# Altium integrated library Silicon Labs Audio.IntLib: 141 symbols (part 3 of 7)
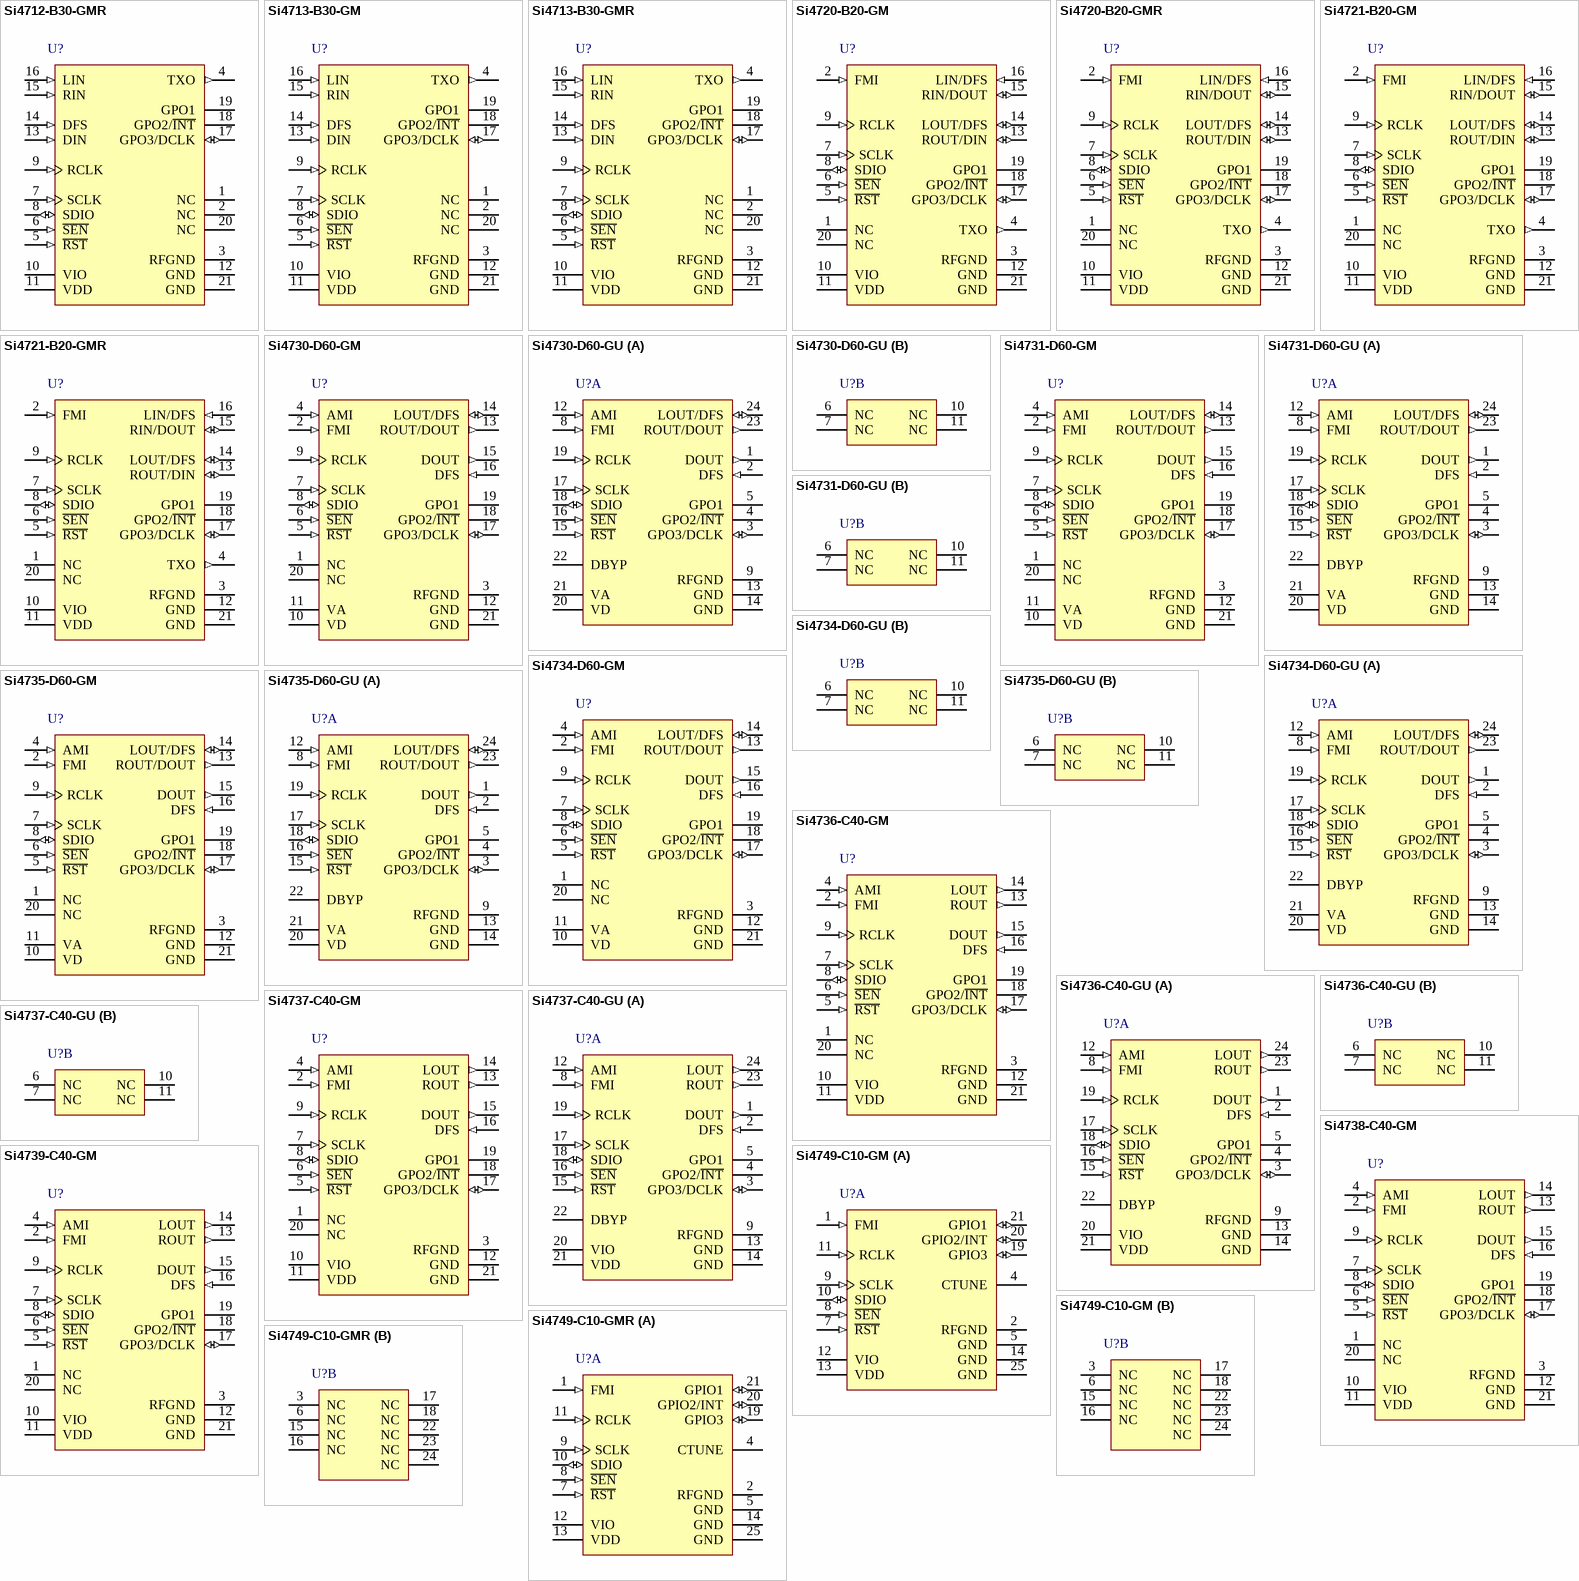
[diagram p9: symbols Si4712-B30-GMR to Si4749-C10-GMR]

## Si4739-C40-GM
designator U?
Broadcast AM / FM Radio Receiver, -20 to 85 degC, 20-pin QFN, Tray; Manufacturer: Silicon Labs; PartNumber: Si4739-C40-GM; RDS Support: TRUE; Sub-Family: AM/FM, Shortwave, Longwave, Weather Band Receivers; DatasheetVersion: Rev. 1.0; PackageReference: QFN-20; PackageDescription: 20-Pin Quad-Flat No-Leads Package, Body 3 x 3 mm, Pitch 0.5 mm; Supplier 1: Digi-Key; Supplier Part Number 1: SI4739-C40-GM-ND; Supplier 2: Mouser; Supplier Part Number 2: 634-SI4739-C40-GM; Mounting Technology: Surface Mount; Code_IPC: J-STD-020; ComponentLink1Description: Manufacturer URL; ComponentLink1URL: http://www.silabs.com/; ComponentLink2Description: Datasheet; ComponentLink2URL: http://www.silabs.com/Support Documents/TechnicalDocs/Si4736-37-38-39-C40.pdf; ComponentLink3Description: Package Specification; ComponentLink3URL: http://www.silabs.com/Support%20Documents/TechnicalDocs/C8051F99x.pdf
footprint SLAB-QFN-20-1700x1700TP_V (QFN, 20-Leads, Body 3x3mm, Pitch 0.5mm, Thermal Pad 1.7x1.7mm)
pins: 1 NC "No Connect. Leave floating.", 2 FMI (in) "FM/WB RF inputs. FMI should be connected to the antenna trace.", 3 RFGND (power) "RF ground. Connect to ground plane on PCB.", 4 AMI (in) "AM RF input. AMI should be connected to the AM antenna.", 5 ~{RST} (in) "Device reset (active low) input.", 6 ~{SEN} (in) "Serial enable input (active low).", 7 SCLK (in) "Serial clock input.", 8 SDIO (io) "Serial data input/output.", 9 RCLK (in) "External reference oscillator input.", 10 VIO (power) "I/O supply voltage.", 11 VDD (power) "Supply voltage. May be connected directly to battery.", 12 GND (power) "Ground. Connect to ground plane on PCB.", 13 ROUT (out) "Right audio line output in analog output mode.", 14 LOUT (out) "Left audio line output in analog output mode.", 15 DOUT (out) "Digital output data in digital output mode.", 16 DFS (in) "Digital frame synchronization input in digital output mode.", 17 GPO3/DCLK (io) "General purpose output, crystal oscillator, or digital bit synchronous clock input in digital output mode.", 18 GPO2/~{INT} (hiz) "General purpose output or interrupt pin.", 19 GPO1 (hiz) "General purpose output.", 20 NC "No Connect. Leave floating.", 21 GND (power) "Ground. Connect to ground plane on PCB."

## Si4749-C10-GM
designator U?
High-Performance FM RDS / RBDS Data Receiver / Alternate Frequency Scanner, -40 to 85 degC, 24-pin QFN, Tray; Manufacturer: Silicon Labs; PartNumber: Si4749-C10-GM; RDS Support: TRUE; Sub-Family: Automotive Tuners; PackageReference: QFN-24; PackageDescription: 24-Pin Quad-Flat No-Lead Package, Body 4 x 4 mm, Pitch 0.5 mm; Supplier 1: Digi-Key; Supplier Part Number 1: SI4749-C10-GM-ND; Packing: Tray; Mounting Technology: Surface Mount; Code_JEDEC: MO-220; Code_IPC: J-STD-020C; ComponentLink1Description: Manufacturer URL; ComponentLink1URL: http://www.silabs.com/; ComponentLink2Description: Datasheet; ComponentLink2URL: http://www.silabs.com/Support Documents/TechnicalDocs/Si4749-short.pdf; ComponentLink3Description: Package Specification; ComponentLink3URL: http://www.silabs.com/Support%20Documents/TechnicalDocs/Si4749-short.pdf
footprint SLAB-QFN-24-2100x2100TP_N (QFN, 24-Leads, Body 4x4mm, Pitch 0.5mm, Thermal Pad 2.1x2.1mm, IPC Medium Density)
footprint SLAB-QFN-24-2100x2100TP_L (QFN, 24-Leads, Body 4x4mm, Pitch 0.5mm, Thermal Pad 2.1x2.1mm, IPC High Density)
footprint SLAB-QFN-24-2100x2100TP_M (QFN, 24-Leads, Body 4x4mm, Pitch 0.5mm, Thermal Pad 2.1x2.1mm, IPC Low Density)
part A pins: 1 FMI (in), 2 RFGND (power), 4 CTUNE, 5 GND (power), 7 ~{RST} (in), 8 ~{SEN} (in), 9 SCLK (in), 10 SDIO (io), 11 RCLK (in), 12 VIO (power), 13 VDD (power), 14 GND (power), 19 GPIO3 (io), 20 GPIO2/INT (io), 21 GPIO1 (io), 25 GND (power)
part B pins: 3 NC, 6 NC, 15 NC, 16 NC, 17 NC, 18 NC, 22 NC, 23 NC, 24 NC

## Si4749-C10-GMR
designator U?
High-Performance FM RDS / RBDS Data Receiver / Alternate Frequency Scanner, -40 to 85 degC, 24-pin QFN, Tape and Reel; Manufacturer: Silicon Labs; PartNumber: Si4749-C10-GMR; RDS Support: TRUE; Sub-Family: Automotive Tuners; PackageReference: QFN-24; PackageDescription: 24-Pin Quad-Flat No-Lead Package, Body 4 x 4 mm, Pitch 0.5 mm; Supplier 1: Digi-Key; Supplier Part Number 1: SI4749-C10-GMR-ND; Supplier 2: Mouser; Supplier Part Number 2: N/A; Packing: Tape and Reel; Mounting Technology: Surface Mount; Code_JEDEC: MO-220; Code_IPC: J-STD-020C; ComponentLink1Description: Manufacturer URL; ComponentLink1URL: http://www.silabs.com/; ComponentLink2Description: Datasheet; ComponentLink2URL: http://www.silabs.com/Support Documents/TechnicalDocs/Si4749-short.pdf; ComponentLink3Description: Package Specification; ComponentLink3URL: http://www.silabs.com/Support%20Documents/TechnicalDocs/Si4749-short.pdf
footprint SLAB-QFN-24-2100x2100TP_N (QFN, 24-Leads, Body 4x4mm, Pitch 0.5mm, Thermal Pad 2.1x2.1mm, IPC Medium Density)
footprint SLAB-QFN-24-2100x2100TP_L (QFN, 24-Leads, Body 4x4mm, Pitch 0.5mm, Thermal Pad 2.1x2.1mm, IPC High Density)
footprint SLAB-QFN-24-2100x2100TP_M (QFN, 24-Leads, Body 4x4mm, Pitch 0.5mm, Thermal Pad 2.1x2.1mm, IPC Low Density)
part A pins: 1 FMI (in), 2 RFGND (power), 4 CTUNE, 5 GND (power), 7 ~{RST} (in), 8 ~{SEN} (in), 9 SCLK (in), 10 SDIO (io), 11 RCLK (in), 12 VIO (power), 13 VDD (power), 14 GND (power), 19 GPIO3 (io), 20 GPIO2/INT (io), 21 GPIO1 (io), 25 GND (power)
part B pins: 3 NC, 6 NC, 15 NC, 16 NC, 17 NC, 18 NC, 22 NC, 23 NC, 24 NC

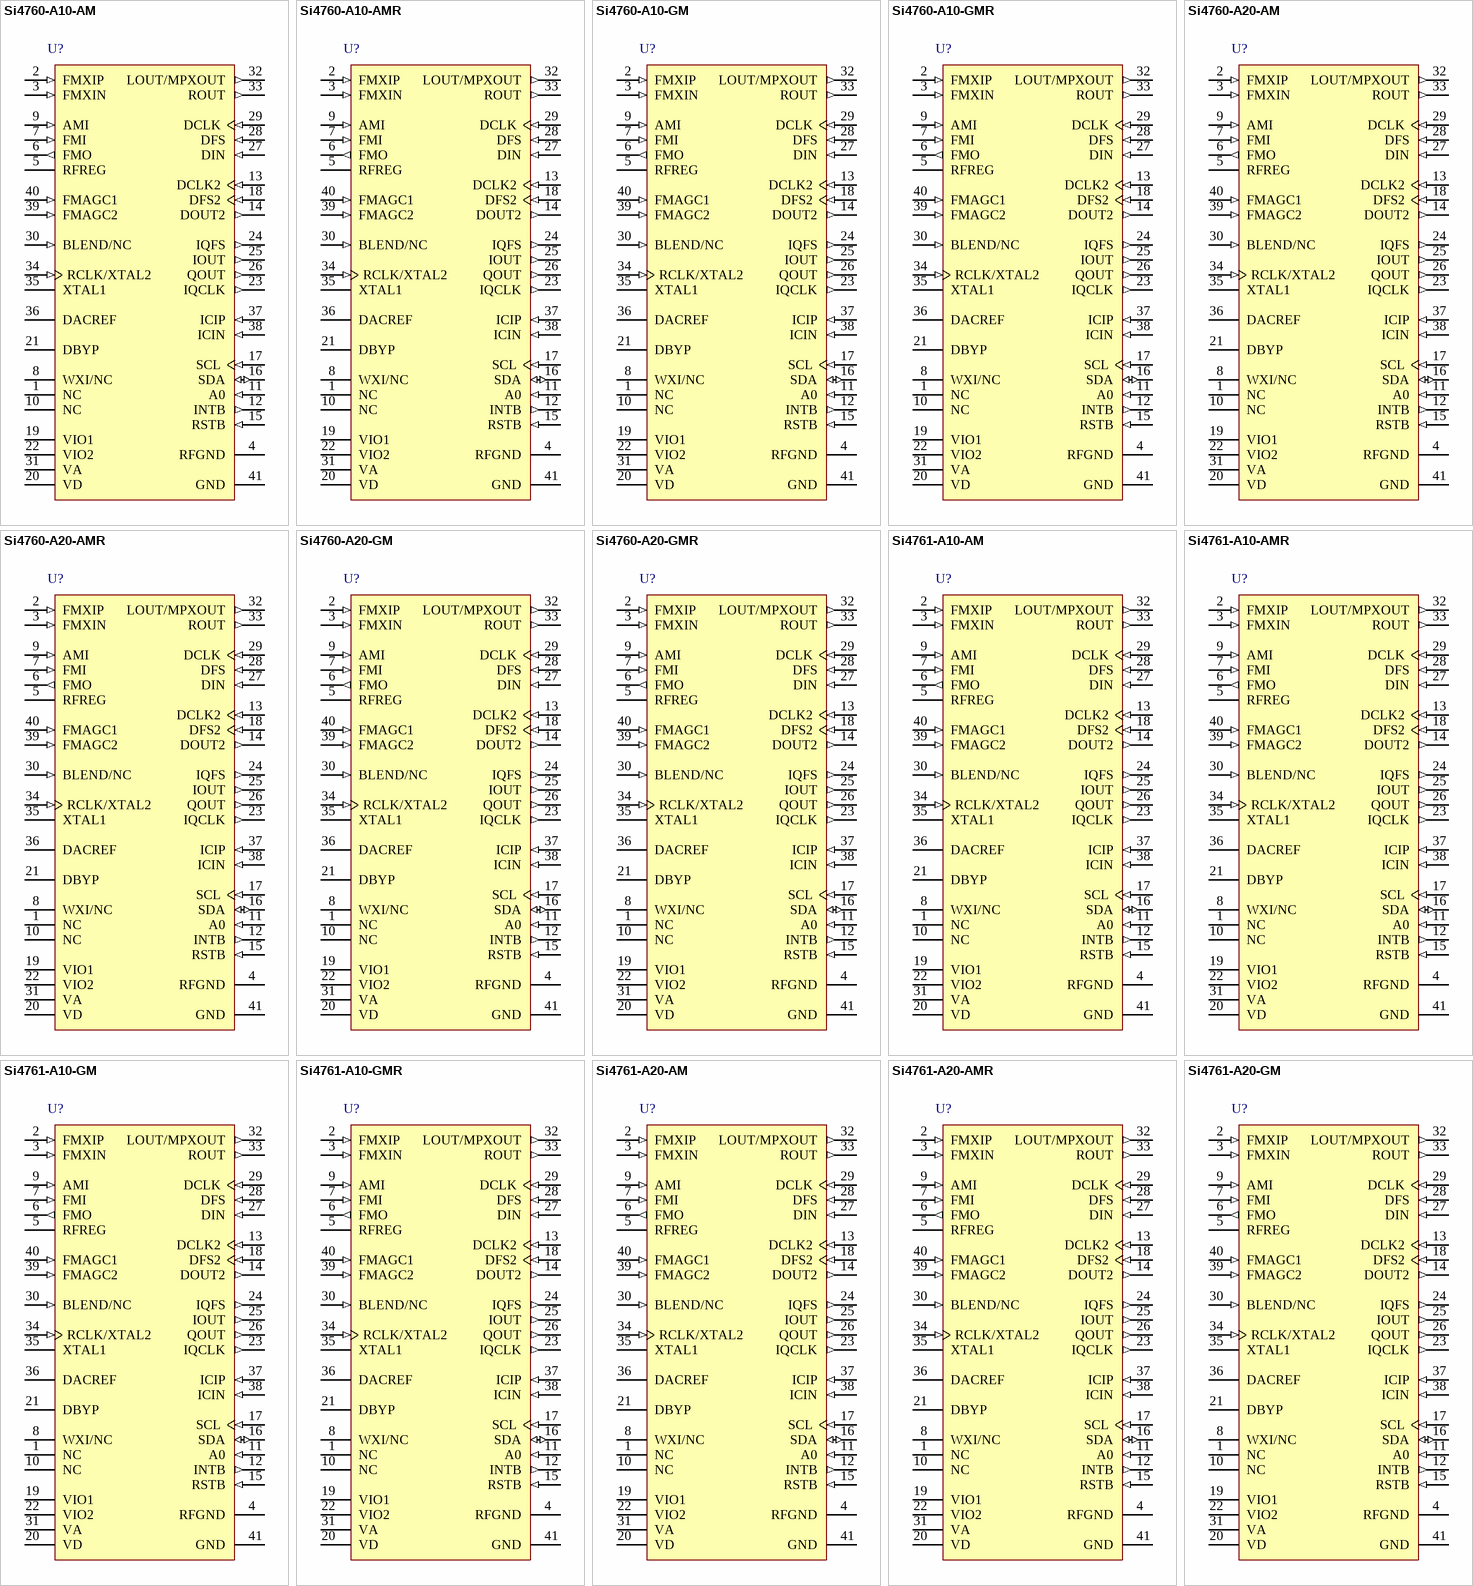
[diagram p2: symbols Si4760-A10-AM to Si4761-A20-GM]

## Si4760-A10-AM
designator U?
High-Performance Automotive AM / FM Radio Receiver and HD Radio Tuner, -40 to 85 degC, 40-pin QFN, Tray; Manufacturer: Silicon Labs; PartNumber: Si4760-A10-AM; RDS Support: TRUE; Sub-Family: Automotive Tuners; PackageVersion: Rev. 1.3, 01/2012; PackageReference: QFN-40; PackageDescription: 40-Pin Quad-Flat No-Leads Package, Body 6 x 6 mm, Pitch 0.5 mm; Supplier 1: Digi-Key; Supplier Part Number 1: SI4760-A10-AM-ND; Supplier 2: Mouser; Supplier Part Number 2: N/A; Packing: Tray; Mounting Technology: Surface Mount; Code_JEDEC: MO-220; Code_IPC: J-STD-020; ComponentLink1Description: Manufacturer URL; ComponentLink1URL: http://www.silabs.com/; ComponentLink2Description: Datasheet; ComponentLink2URL: http://www.silabs.com/Support Documents/TechnicalDocs/Si476x-short.pdf; ComponentLink3Description: Package Specification; ComponentLink3URL: http://www.silabs.com/Support%20Documents/TechnicalDocs/Si3452.pdf
footprint SLAB-QFN-40-4100x4100TP_A_N (QFN, 40-Leads, Body 6x6mm, Pitch 0.5mm, Thermal Pad 4.1X4.1mm, IPC Medium Density)
footprint SLAB-QFN-40-4100x4100TP_A_L (QFN, 40-Leads, Body 6x6mm, Pitch 0.5mm, Thermal Pad 4.1X4.1mm, IPC High Density)
footprint SLAB-QFN-40-4100x4100TP_A_M (QFN, 40-Leads, Body 6x6mm, Pitch 0.5mm, Thermal Pad 4.1X4.1mm, IPC Low Density)
pins: 1 NC, 2 FMXIP (in), 3 FMXIN (in), 4 RFGND (power), 5 RFREG (power), 6 FMO (out), 7 FMI (in), 8 WXI/NC, 9 AMI (in), 10 NC, 11 A0 (in), 12 INTB (out), 13 DCLK2 (in), 14 DOUT2 (out), 15 RSTB (in), 16 SDA (io), 17 SCL (in), 18 DFS2 (in), 19 VIO1 (power), 20 VD (power), 21 DBYP, 22 VIO2 (power), 23 IQCLK (out), 24 IQFS (out), 25 IOUT (out), 26 QOUT (out), 27 DIN (in), 28 DFS (in), 29 DCLK (in), 30 BLEND/NC (in), 31 VA (power), 32 LOUT/MPXOUT (out), 33 ROUT (out), 34 RCLK/XTAL2 (in), 35 XTAL1, 36 DACREF, 37 ICIP (in), 38 ICIN (in), 39 FMAGC2 (in), 40 FMAGC1 (in), 41 GND (power)

## Si4760-A10-AMR
designator U?
High-Performance Automotive AM / FM Radio Receiver and HD Radio Tuner, -40 to 85 degC, 40-pin QFN, Tape and Reel; Manufacturer: Silicon Labs; PartNumber: Si4760-A10-AMR; RDS Support: TRUE; Sub-Family: Automotive Tuners; PackageVersion: Rev. 1.3, 01/2012; PackageReference: QFN-40; PackageDescription: 40-Pin Quad-Flat No-Leads Package, Body 6 x 6 mm, Pitch 0.5 mm; Supplier 1: Digi-Key; Supplier Part Number 1: SI4760-A10-AMR-ND; Supplier 2: Mouser; Supplier Part Number 2: N/A; Packing: Tape and Reel; Mounting Technology: Surface Mount; Code_JEDEC: MO-220; Code_IPC: J-STD-020; ComponentLink1Description: Manufacturer URL; ComponentLink1URL: http://www.silabs.com/; ComponentLink2Description: Datasheet; ComponentLink2URL: http://www.silabs.com/Support Documents/TechnicalDocs/Si476x-short.pdf; ComponentLink3Description: Package Specification; ComponentLink3URL: http://www.silabs.com/Support%20Documents/TechnicalDocs/Si3452.pdf
footprint SLAB-QFN-40-4100x4100TP_A_N (QFN, 40-Leads, Body 6x6mm, Pitch 0.5mm, Thermal Pad 4.1X4.1mm, IPC Medium Density)
footprint SLAB-QFN-40-4100x4100TP_A_L (QFN, 40-Leads, Body 6x6mm, Pitch 0.5mm, Thermal Pad 4.1X4.1mm, IPC High Density)
footprint SLAB-QFN-40-4100x4100TP_A_M (QFN, 40-Leads, Body 6x6mm, Pitch 0.5mm, Thermal Pad 4.1X4.1mm, IPC Low Density)
pins: 1 NC, 2 FMXIP (in), 3 FMXIN (in), 4 RFGND (power), 5 RFREG (power), 6 FMO (out), 7 FMI (in), 8 WXI/NC, 9 AMI (in), 10 NC, 11 A0 (in), 12 INTB (out), 13 DCLK2 (in), 14 DOUT2 (out), 15 RSTB (in), 16 SDA (io), 17 SCL (in), 18 DFS2 (in), 19 VIO1 (power), 20 VD (power), 21 DBYP, 22 VIO2 (power), 23 IQCLK (out), 24 IQFS (out), 25 IOUT (out), 26 QOUT (out), 27 DIN (in), 28 DFS (in), 29 DCLK (in), 30 BLEND/NC (in), 31 VA (power), 32 LOUT/MPXOUT (out), 33 ROUT (out), 34 RCLK/XTAL2 (in), 35 XTAL1, 36 DACREF, 37 ICIP (in), 38 ICIN (in), 39 FMAGC2 (in), 40 FMAGC1 (in), 41 GND (power)

## Si4760-A10-GM
designator U?
High-Performance Automotive AM / FM Radio Receiver and HD Radio Tuner, -40 to 85 degC, 40-pin QFN, Tray; Manufacturer: Silicon Labs; PartNumber: Si4760-A10-GM; RDS Support: TRUE; Sub-Family: Automotive Tuners; PackageVersion: Rev. 1.3, 01/2012; PackageReference: QFN-40; PackageDescription: 40-Pin Quad-Flat No-Leads Package, Body 6 x 6 mm, Pitch 0.5 mm; Supplier 1: Digi-Key; Supplier Part Number 1: SI4760-A10-GM-ND; Supplier 2: Mouser; Supplier Part Number 2: N/A; Packing: Tray; Mounting Technology: Surface Mount; Code_JEDEC: MO-220; Code_IPC: J-STD-020; ComponentLink1Description: Manufacturer URL; ComponentLink1URL: http://www.silabs.com/; ComponentLink2Description: Datasheet; ComponentLink2URL: http://www.silabs.com/Support Documents/TechnicalDocs/Si476x-short.pdf; ComponentLink3Description: Package Specification; ComponentLink3URL: http://www.silabs.com/Support%20Documents/TechnicalDocs/Si3452.pdf
footprint SLAB-QFN-40-4100x4100TP_A_N (QFN, 40-Leads, Body 6x6mm, Pitch 0.5mm, Thermal Pad 4.1X4.1mm, IPC Medium Density)
footprint SLAB-QFN-40-4100x4100TP_A_L (QFN, 40-Leads, Body 6x6mm, Pitch 0.5mm, Thermal Pad 4.1X4.1mm, IPC High Density)
footprint SLAB-QFN-40-4100x4100TP_A_M (QFN, 40-Leads, Body 6x6mm, Pitch 0.5mm, Thermal Pad 4.1X4.1mm, IPC Low Density)
pins: 1 NC, 2 FMXIP (in), 3 FMXIN (in), 4 RFGND (power), 5 RFREG (power), 6 FMO (out), 7 FMI (in), 8 WXI/NC, 9 AMI (in), 10 NC, 11 A0 (in), 12 INTB (out), 13 DCLK2 (in), 14 DOUT2 (out), 15 RSTB (in), 16 SDA (io), 17 SCL (in), 18 DFS2 (in), 19 VIO1 (power), 20 VD (power), 21 DBYP, 22 VIO2 (power), 23 IQCLK (out), 24 IQFS (out), 25 IOUT (out), 26 QOUT (out), 27 DIN (in), 28 DFS (in), 29 DCLK (in), 30 BLEND/NC (in), 31 VA (power), 32 LOUT/MPXOUT (out), 33 ROUT (out), 34 RCLK/XTAL2 (in), 35 XTAL1, 36 DACREF, 37 ICIP (in), 38 ICIN (in), 39 FMAGC2 (in), 40 FMAGC1 (in), 41 GND (power)

## Si4760-A10-GMR
designator U?
High-Performance Automotive AM / FM Radio Receiver and HD Radio Tuner, -40 to 85 degC, 40-pin QFN, Tape and Reel; Manufacturer: Silicon Labs; PartNumber: Si4760-A10-GMR; RDS Support: TRUE; Sub-Family: Automotive Tuners; PackageVersion: Rev. 1.3, 01/2012; PackageReference: QFN-40; PackageDescription: 40-Pin Quad-Flat No-Leads Package, Body 6 x 6 mm, Pitch 0.5 mm; Supplier 1: Digi-Key; Supplier Part Number 1: SI4760-A10-GMR-ND; Supplier 2: Mouser; Supplier Part Number 2: N/A; Packing: Tape and Reel; Mounting Technology: Surface Mount; Code_JEDEC: MO-220; Code_IPC: J-STD-020; ComponentLink1Description: Manufacturer URL; ComponentLink1URL: http://www.silabs.com/; ComponentLink2Description: Datasheet; ComponentLink2URL: http://www.silabs.com/Support Documents/TechnicalDocs/Si476x-short.pdf; ComponentLink3Description: Package Specification; ComponentLink3URL: http://www.silabs.com/Support%20Documents/TechnicalDocs/Si3452.pdf
footprint SLAB-QFN-40-4100x4100TP_A_N (QFN, 40-Leads, Body 6x6mm, Pitch 0.5mm, Thermal Pad 4.1X4.1mm, IPC Medium Density)
footprint SLAB-QFN-40-4100x4100TP_A_L (QFN, 40-Leads, Body 6x6mm, Pitch 0.5mm, Thermal Pad 4.1X4.1mm, IPC High Density)
footprint SLAB-QFN-40-4100x4100TP_A_M (QFN, 40-Leads, Body 6x6mm, Pitch 0.5mm, Thermal Pad 4.1X4.1mm, IPC Low Density)
pins: 1 NC, 2 FMXIP (in), 3 FMXIN (in), 4 RFGND (power), 5 RFREG (power), 6 FMO (out), 7 FMI (in), 8 WXI/NC, 9 AMI (in), 10 NC, 11 A0 (in), 12 INTB (out), 13 DCLK2 (in), 14 DOUT2 (out), 15 RSTB (in), 16 SDA (io), 17 SCL (in), 18 DFS2 (in), 19 VIO1 (power), 20 VD (power), 21 DBYP, 22 VIO2 (power), 23 IQCLK (out), 24 IQFS (out), 25 IOUT (out), 26 QOUT (out), 27 DIN (in), 28 DFS (in), 29 DCLK (in), 30 BLEND/NC (in), 31 VA (power), 32 LOUT/MPXOUT (out), 33 ROUT (out), 34 RCLK/XTAL2 (in), 35 XTAL1, 36 DACREF, 37 ICIP (in), 38 ICIN (in), 39 FMAGC2 (in), 40 FMAGC1 (in), 41 GND (power)

## Si4760-A20-AM
designator U?
High-Performance Automotive AM / FM Radio Receiver and HD Radio Tuner, -40 to 85 degC, 40-pin QFN, Tray; Manufacturer: Silicon Labs; PartNumber: Si4760-A20-AM; RDS Support: TRUE; Sub-Family: Automotive Tuners; PackageVersion: Rev. 1.3, 01/2012; PackageReference: QFN-40; PackageDescription: 40-Pin Quad-Flat No-Leads Package, Body 6 x 6 mm, Pitch 0.5 mm; Supplier 1: Digi-Key; Supplier Part Number 1: SI4760-A20-AM-ND; Supplier 2: Mouser; Supplier Part Number 2: N/A; Packing: Tray; Mounting Technology: Surface Mount; Code_JEDEC: MO-220; Code_IPC: J-STD-020; ComponentLink1Description: Manufacturer URL; ComponentLink1URL: http://www.silabs.com/; ComponentLink2Description: Datasheet; ComponentLink2URL: http://www.silabs.com/Support Documents/TechnicalDocs/Si476x-short.pdf; ComponentLink3Description: Package Specification; ComponentLink3URL: http://www.silabs.com/Support%20Documents/TechnicalDocs/Si3452.pdf
footprint SLAB-QFN-40-4100x4100TP_A_N (QFN, 40-Leads, Body 6x6mm, Pitch 0.5mm, Thermal Pad 4.1X4.1mm, IPC Medium Density)
footprint SLAB-QFN-40-4100x4100TP_A_L (QFN, 40-Leads, Body 6x6mm, Pitch 0.5mm, Thermal Pad 4.1X4.1mm, IPC High Density)
footprint SLAB-QFN-40-4100x4100TP_A_M (QFN, 40-Leads, Body 6x6mm, Pitch 0.5mm, Thermal Pad 4.1X4.1mm, IPC Low Density)
pins: 1 NC, 2 FMXIP (in), 3 FMXIN (in), 4 RFGND (power), 5 RFREG (power), 6 FMO (out), 7 FMI (in), 8 WXI/NC, 9 AMI (in), 10 NC, 11 A0 (in), 12 INTB (out), 13 DCLK2 (in), 14 DOUT2 (out), 15 RSTB (in), 16 SDA (io), 17 SCL (in), 18 DFS2 (in), 19 VIO1 (power), 20 VD (power), 21 DBYP, 22 VIO2 (power), 23 IQCLK (out), 24 IQFS (out), 25 IOUT (out), 26 QOUT (out), 27 DIN (in), 28 DFS (in), 29 DCLK (in), 30 BLEND/NC (in), 31 VA (power), 32 LOUT/MPXOUT (out), 33 ROUT (out), 34 RCLK/XTAL2 (in), 35 XTAL1, 36 DACREF, 37 ICIP (in), 38 ICIN (in), 39 FMAGC2 (in), 40 FMAGC1 (in), 41 GND (power)

## Si4760-A20-AMR
designator U?
High-Performance Automotive AM / FM Radio Receiver and HD Radio Tuner, -40 to 85 degC, 40-pin QFN, Tape and Reel; Manufacturer: Silicon Labs; PartNumber: Si4760-A20-AMR; RDS Support: TRUE; Sub-Family: Automotive Tuners; PackageVersion: Rev. 1.3, 01/2012; PackageReference: QFN-40; PackageDescription: 40-Pin Quad-Flat No-Leads Package, Body 6 x 6 mm, Pitch 0.5 mm; Supplier 1: Digi-Key; Supplier Part Number 1: SI4760-A20-AMR-ND; Packing: Tape and Reel; Mounting Technology: Surface Mount; Code_JEDEC: MO-220; Code_IPC: J-STD-020; ComponentLink1Description: Manufacturer URL; ComponentLink1URL: http://www.silabs.com/; ComponentLink2Description: Datasheet; ComponentLink2URL: http://www.silabs.com/Support Documents/TechnicalDocs/Si476x-short.pdf; ComponentLink3Description: Package Specification; ComponentLink3URL: http://www.silabs.com/Support%20Documents/TechnicalDocs/Si3452.pdf
footprint SLAB-QFN-40-4100x4100TP_A_N (QFN, 40-Leads, Body 6x6mm, Pitch 0.5mm, Thermal Pad 4.1X4.1mm, IPC Medium Density)
footprint SLAB-QFN-40-4100x4100TP_A_L (QFN, 40-Leads, Body 6x6mm, Pitch 0.5mm, Thermal Pad 4.1X4.1mm, IPC High Density)
footprint SLAB-QFN-40-4100x4100TP_A_M (QFN, 40-Leads, Body 6x6mm, Pitch 0.5mm, Thermal Pad 4.1X4.1mm, IPC Low Density)
pins: 1 NC, 2 FMXIP (in), 3 FMXIN (in), 4 RFGND (power), 5 RFREG (power), 6 FMO (out), 7 FMI (in), 8 WXI/NC, 9 AMI (in), 10 NC, 11 A0 (in), 12 INTB (out), 13 DCLK2 (in), 14 DOUT2 (out), 15 RSTB (in), 16 SDA (io), 17 SCL (in), 18 DFS2 (in), 19 VIO1 (power), 20 VD (power), 21 DBYP, 22 VIO2 (power), 23 IQCLK (out), 24 IQFS (out), 25 IOUT (out), 26 QOUT (out), 27 DIN (in), 28 DFS (in), 29 DCLK (in), 30 BLEND/NC (in), 31 VA (power), 32 LOUT/MPXOUT (out), 33 ROUT (out), 34 RCLK/XTAL2 (in), 35 XTAL1, 36 DACREF, 37 ICIP (in), 38 ICIN (in), 39 FMAGC2 (in), 40 FMAGC1 (in), 41 GND (power)

## Si4760-A20-GM
designator U?
High-Performance Automotive AM / FM Radio Receiver and HD Radio Tuner, -40 to 85 degC, 40-pin QFN, Tray; Manufacturer: Silicon Labs; PartNumber: Si4760-A20-GM; RDS Support: TRUE; Sub-Family: Automotive Tuners; PackageVersion: Rev. 1.3, 01/2012; PackageReference: QFN-40; PackageDescription: 40-Pin Quad-Flat No-Leads Package, Body 6 x 6 mm, Pitch 0.5 mm; Supplier 1: Digi-Key; Supplier Part Number 1: SI4760-A20-GM-ND; Supplier 2: Mouser; Supplier Part Number 2: N/A; Packing: Tray; Mounting Technology: Surface Mount; Code_JEDEC: MO-220; Code_IPC: J-STD-020; ComponentLink1Description: Manufacturer URL; ComponentLink1URL: http://www.silabs.com/; ComponentLink2Description: Datasheet; ComponentLink2URL: http://www.silabs.com/Support Documents/TechnicalDocs/Si476x-short.pdf; ComponentLink3Description: Package Specification; ComponentLink3URL: http://www.silabs.com/Support%20Documents/TechnicalDocs/Si3452.pdf
footprint SLAB-QFN-40-4100x4100TP_A_N (QFN, 40-Leads, Body 6x6mm, Pitch 0.5mm, Thermal Pad 4.1X4.1mm, IPC Medium Density)
footprint SLAB-QFN-40-4100x4100TP_A_L (QFN, 40-Leads, Body 6x6mm, Pitch 0.5mm, Thermal Pad 4.1X4.1mm, IPC High Density)
footprint SLAB-QFN-40-4100x4100TP_A_M (QFN, 40-Leads, Body 6x6mm, Pitch 0.5mm, Thermal Pad 4.1X4.1mm, IPC Low Density)
pins: 1 NC, 2 FMXIP (in), 3 FMXIN (in), 4 RFGND (power), 5 RFREG (power), 6 FMO (out), 7 FMI (in), 8 WXI/NC, 9 AMI (in), 10 NC, 11 A0 (in), 12 INTB (out), 13 DCLK2 (in), 14 DOUT2 (out), 15 RSTB (in), 16 SDA (io), 17 SCL (in), 18 DFS2 (in), 19 VIO1 (power), 20 VD (power), 21 DBYP, 22 VIO2 (power), 23 IQCLK (out), 24 IQFS (out), 25 IOUT (out), 26 QOUT (out), 27 DIN (in), 28 DFS (in), 29 DCLK (in), 30 BLEND/NC (in), 31 VA (power), 32 LOUT/MPXOUT (out), 33 ROUT (out), 34 RCLK/XTAL2 (in), 35 XTAL1, 36 DACREF, 37 ICIP (in), 38 ICIN (in), 39 FMAGC2 (in), 40 FMAGC1 (in), 41 GND (power)

## Si4760-A20-GMR
designator U?
High-Performance Automotive AM / FM Radio Receiver and HD Radio Tuner, -40 to 85 degC, 40-pin QFN, Tape and Reel; Manufacturer: Silicon Labs; PartNumber: Si4760-A20-GMR; RDS Support: TRUE; Sub-Family: Automotive Tuners; PackageVersion: Rev. 1.3, 01/2012; PackageReference: QFN-40; PackageDescription: 40-Pin Quad-Flat No-Leads Package, Body 6 x 6 mm, Pitch 0.5 mm; Supplier 1: Digi-Key; Supplier Part Number 1: SI4760-A20-GMR-ND; Packing: Tape and Reel; Mounting Technology: Surface Mount; Code_JEDEC: MO-220; Code_IPC: J-STD-020; ComponentLink1Description: Manufacturer URL; ComponentLink1URL: http://www.silabs.com/; ComponentLink2Description: Datasheet; ComponentLink2URL: http://www.silabs.com/Support Documents/TechnicalDocs/Si476x-short.pdf; ComponentLink3Description: Package Specification; ComponentLink3URL: http://www.silabs.com/Support%20Documents/TechnicalDocs/Si3452.pdf
footprint SLAB-QFN-40-4100x4100TP_A_N (QFN, 40-Leads, Body 6x6mm, Pitch 0.5mm, Thermal Pad 4.1X4.1mm, IPC Medium Density)
footprint SLAB-QFN-40-4100x4100TP_A_L (QFN, 40-Leads, Body 6x6mm, Pitch 0.5mm, Thermal Pad 4.1X4.1mm, IPC High Density)
footprint SLAB-QFN-40-4100x4100TP_A_M (QFN, 40-Leads, Body 6x6mm, Pitch 0.5mm, Thermal Pad 4.1X4.1mm, IPC Low Density)
pins: 1 NC, 2 FMXIP (in), 3 FMXIN (in), 4 RFGND (power), 5 RFREG (power), 6 FMO (out), 7 FMI (in), 8 WXI/NC, 9 AMI (in), 10 NC, 11 A0 (in), 12 INTB (out), 13 DCLK2 (in), 14 DOUT2 (out), 15 RSTB (in), 16 SDA (io), 17 SCL (in), 18 DFS2 (in), 19 VIO1 (power), 20 VD (power), 21 DBYP, 22 VIO2 (power), 23 IQCLK (out), 24 IQFS (out), 25 IOUT (out), 26 QOUT (out), 27 DIN (in), 28 DFS (in), 29 DCLK (in), 30 BLEND/NC (in), 31 VA (power), 32 LOUT/MPXOUT (out), 33 ROUT (out), 34 RCLK/XTAL2 (in), 35 XTAL1, 36 DACREF, 37 ICIP (in), 38 ICIN (in), 39 FMAGC2 (in), 40 FMAGC1 (in), 41 GND (power)

## Si4761-A10-AM
designator U?
High-Performance Automotive AM / FM Radio Receiver and HD Radio Tuner, -40 to 85 degC, 40-pin QFN, Tray; Manufacturer: Silicon Labs; PartNumber: Si4761-A10-AM; RDS Support: TRUE; Sub-Family: Automotive Tuners; PackageVersion: Rev. 1.3, 01/2012; PackageReference: QFN-40; PackageDescription: 40-Pin Quad-Flat No-Leads Package, Body 6 x 6 mm, Pitch 0.5 mm; Supplier 1: Digi-Key; Supplier Part Number 1: SI4761-A10-AM-ND; Supplier 2: Mouser; Supplier Part Number 2: N/A; Packing: Tray; Mounting Technology: Surface Mount; Code_JEDEC: MO-220; Code_IPC: J-STD-020; ComponentLink1Description: Manufacturer URL; ComponentLink1URL: http://www.silabs.com/; ComponentLink2Description: Datasheet; ComponentLink2URL: http://www.silabs.com/Support Documents/TechnicalDocs/Si476x-short.pdf; ComponentLink3Description: Package Specification; ComponentLink3URL: http://www.silabs.com/Support%20Documents/TechnicalDocs/Si3452.pdf
footprint SLAB-QFN-40-4100x4100TP_A_N (QFN, 40-Leads, Body 6x6mm, Pitch 0.5mm, Thermal Pad 4.1X4.1mm, IPC Medium Density)
footprint SLAB-QFN-40-4100x4100TP_A_L (QFN, 40-Leads, Body 6x6mm, Pitch 0.5mm, Thermal Pad 4.1X4.1mm, IPC High Density)
footprint SLAB-QFN-40-4100x4100TP_A_M (QFN, 40-Leads, Body 6x6mm, Pitch 0.5mm, Thermal Pad 4.1X4.1mm, IPC Low Density)
pins: 1 NC, 2 FMXIP (in), 3 FMXIN (in), 4 RFGND (power), 5 RFREG (power), 6 FMO (out), 7 FMI (in), 8 WXI/NC, 9 AMI (in), 10 NC, 11 A0 (in), 12 INTB (out), 13 DCLK2 (in), 14 DOUT2 (out), 15 RSTB (in), 16 SDA (io), 17 SCL (in), 18 DFS2 (in), 19 VIO1 (power), 20 VD (power), 21 DBYP, 22 VIO2 (power), 23 IQCLK (out), 24 IQFS (out), 25 IOUT (out), 26 QOUT (out), 27 DIN (in), 28 DFS (in), 29 DCLK (in), 30 BLEND/NC (in), 31 VA (power), 32 LOUT/MPXOUT (out), 33 ROUT (out), 34 RCLK/XTAL2 (in), 35 XTAL1, 36 DACREF, 37 ICIP (in), 38 ICIN (in), 39 FMAGC2 (in), 40 FMAGC1 (in), 41 GND (power)

## Si4761-A10-AMR
designator U?
High-Performance Automotive AM / FM Radio Receiver and HD Radio Tuner, -40 to 85 degC, 40-pin QFN, Tape and Reel; Manufacturer: Silicon Labs; PartNumber: Si4761-A10-AMR; RDS Support: TRUE; Sub-Family: Automotive Tuners; PackageVersion: Rev. 1.3, 01/2012; PackageReference: QFN-40; PackageDescription: 40-Pin Quad-Flat No-Leads Package, Body 6 x 6 mm, Pitch 0.5 mm; Supplier 1: Digi-Key; Supplier Part Number 1: SI4761-A10-AMR-ND; Supplier 2: Mouser; Supplier Part Number 2: N/A; Packing: Tape and Reel; Mounting Technology: Surface Mount; Code_JEDEC: MO-220; Code_IPC: J-STD-020; ComponentLink1Description: Manufacturer URL; ComponentLink1URL: http://www.silabs.com/; ComponentLink2Description: Datasheet; ComponentLink2URL: http://www.silabs.com/Support Documents/TechnicalDocs/Si476x-short.pdf; ComponentLink3Description: Package Specification; ComponentLink3URL: http://www.silabs.com/Support%20Documents/TechnicalDocs/Si3452.pdf
footprint SLAB-QFN-40-4100x4100TP_A_N (QFN, 40-Leads, Body 6x6mm, Pitch 0.5mm, Thermal Pad 4.1X4.1mm, IPC Medium Density)
footprint SLAB-QFN-40-4100x4100TP_A_L (QFN, 40-Leads, Body 6x6mm, Pitch 0.5mm, Thermal Pad 4.1X4.1mm, IPC High Density)
footprint SLAB-QFN-40-4100x4100TP_A_M (QFN, 40-Leads, Body 6x6mm, Pitch 0.5mm, Thermal Pad 4.1X4.1mm, IPC Low Density)
pins: 1 NC, 2 FMXIP (in), 3 FMXIN (in), 4 RFGND (power), 5 RFREG (power), 6 FMO (out), 7 FMI (in), 8 WXI/NC, 9 AMI (in), 10 NC, 11 A0 (in), 12 INTB (out), 13 DCLK2 (in), 14 DOUT2 (out), 15 RSTB (in), 16 SDA (io), 17 SCL (in), 18 DFS2 (in), 19 VIO1 (power), 20 VD (power), 21 DBYP, 22 VIO2 (power), 23 IQCLK (out), 24 IQFS (out), 25 IOUT (out), 26 QOUT (out), 27 DIN (in), 28 DFS (in), 29 DCLK (in), 30 BLEND/NC (in), 31 VA (power), 32 LOUT/MPXOUT (out), 33 ROUT (out), 34 RCLK/XTAL2 (in), 35 XTAL1, 36 DACREF, 37 ICIP (in), 38 ICIN (in), 39 FMAGC2 (in), 40 FMAGC1 (in), 41 GND (power)

## Si4761-A10-GM
designator U?
High-Performance Automotive AM / FM Radio Receiver and HD Radio Tuner, -40 to 85 degC, 40-pin QFN, Tray; Manufacturer: Silicon Labs; PartNumber: Si4761-A10-GM; RDS Support: TRUE; Sub-Family: Automotive Tuners; PackageVersion: Rev. 1.3, 01/2012; PackageReference: QFN-40; PackageDescription: 40-Pin Quad-Flat No-Leads Package, Body 6 x 6 mm, Pitch 0.5 mm; Supplier 1: Digi-Key; Supplier Part Number 1: SI4761-A10-GM-ND; Supplier 2: Mouser; Supplier Part Number 2: N/A; Packing: Tray; Mounting Technology: Surface Mount; Code_JEDEC: MO-220; Code_IPC: J-STD-020; ComponentLink1Description: Manufacturer URL; ComponentLink1URL: http://www.silabs.com/; ComponentLink2Description: Datasheet; ComponentLink2URL: http://www.silabs.com/Support Documents/TechnicalDocs/Si476x-short.pdf; ComponentLink3Description: Package Specification; ComponentLink3URL: http://www.silabs.com/Support%20Documents/TechnicalDocs/Si3452.pdf
footprint SLAB-QFN-40-4100x4100TP_A_N (QFN, 40-Leads, Body 6x6mm, Pitch 0.5mm, Thermal Pad 4.1X4.1mm, IPC Medium Density)
footprint SLAB-QFN-40-4100x4100TP_A_L (QFN, 40-Leads, Body 6x6mm, Pitch 0.5mm, Thermal Pad 4.1X4.1mm, IPC High Density)
footprint SLAB-QFN-40-4100x4100TP_A_M (QFN, 40-Leads, Body 6x6mm, Pitch 0.5mm, Thermal Pad 4.1X4.1mm, IPC Low Density)
pins: 1 NC, 2 FMXIP (in), 3 FMXIN (in), 4 RFGND (power), 5 RFREG (power), 6 FMO (out), 7 FMI (in), 8 WXI/NC, 9 AMI (in), 10 NC, 11 A0 (in), 12 INTB (out), 13 DCLK2 (in), 14 DOUT2 (out), 15 RSTB (in), 16 SDA (io), 17 SCL (in), 18 DFS2 (in), 19 VIO1 (power), 20 VD (power), 21 DBYP, 22 VIO2 (power), 23 IQCLK (out), 24 IQFS (out), 25 IOUT (out), 26 QOUT (out), 27 DIN (in), 28 DFS (in), 29 DCLK (in), 30 BLEND/NC (in), 31 VA (power), 32 LOUT/MPXOUT (out), 33 ROUT (out), 34 RCLK/XTAL2 (in), 35 XTAL1, 36 DACREF, 37 ICIP (in), 38 ICIN (in), 39 FMAGC2 (in), 40 FMAGC1 (in), 41 GND (power)

## Si4761-A10-GMR
designator U?
High-Performance Automotive AM / FM Radio Receiver and HD Radio Tuner, -40 to 85 degC, 40-pin QFN, Tape and Reel; Manufacturer: Silicon Labs; PartNumber: Si4761-A10-GMR; RDS Support: TRUE; Sub-Family: Automotive Tuners; PackageVersion: Rev. 1.3, 01/2012; PackageReference: QFN-40; PackageDescription: 40-Pin Quad-Flat No-Leads Package, Body 6 x 6 mm, Pitch 0.5 mm; Supplier 1: Digi-Key; Supplier Part Number 1: SI4761-A10-GMR-ND; Supplier 2: Mouser; Supplier Part Number 2: N/A; Packing: Tape and Reel; Mounting Technology: Surface Mount; Code_JEDEC: MO-220; Code_IPC: J-STD-020; ComponentLink1Description: Manufacturer URL; ComponentLink1URL: http://www.silabs.com/; ComponentLink2Description: Datasheet; ComponentLink2URL: http://www.silabs.com/Support Documents/TechnicalDocs/Si476x-short.pdf; ComponentLink3Description: Package Specification; ComponentLink3URL: http://www.silabs.com/Support%20Documents/TechnicalDocs/Si3452.pdf
footprint SLAB-QFN-40-4100x4100TP_A_N (QFN, 40-Leads, Body 6x6mm, Pitch 0.5mm, Thermal Pad 4.1X4.1mm, IPC Medium Density)
footprint SLAB-QFN-40-4100x4100TP_A_L (QFN, 40-Leads, Body 6x6mm, Pitch 0.5mm, Thermal Pad 4.1X4.1mm, IPC High Density)
footprint SLAB-QFN-40-4100x4100TP_A_M (QFN, 40-Leads, Body 6x6mm, Pitch 0.5mm, Thermal Pad 4.1X4.1mm, IPC Low Density)
pins: 1 NC, 2 FMXIP (in), 3 FMXIN (in), 4 RFGND (power), 5 RFREG (power), 6 FMO (out), 7 FMI (in), 8 WXI/NC, 9 AMI (in), 10 NC, 11 A0 (in), 12 INTB (out), 13 DCLK2 (in), 14 DOUT2 (out), 15 RSTB (in), 16 SDA (io), 17 SCL (in), 18 DFS2 (in), 19 VIO1 (power), 20 VD (power), 21 DBYP, 22 VIO2 (power), 23 IQCLK (out), 24 IQFS (out), 25 IOUT (out), 26 QOUT (out), 27 DIN (in), 28 DFS (in), 29 DCLK (in), 30 BLEND/NC (in), 31 VA (power), 32 LOUT/MPXOUT (out), 33 ROUT (out), 34 RCLK/XTAL2 (in), 35 XTAL1, 36 DACREF, 37 ICIP (in), 38 ICIN (in), 39 FMAGC2 (in), 40 FMAGC1 (in), 41 GND (power)

## Si4761-A20-AM
designator U?
High-Performance Automotive AM / FM Radio Receiver and HD Radio Tuner, -40 to 85 degC, 40-pin QFN, Tray; Manufacturer: Silicon Labs; PartNumber: Si4761-A20-AM; RDS Support: TRUE; Sub-Family: Automotive Tuners; PackageVersion: Rev. 1.3, 01/2012; PackageReference: QFN-40; PackageDescription: 40-Pin Quad-Flat No-Leads Package, Body 6 x 6 mm, Pitch 0.5 mm; Supplier 1: Digi-Key; Supplier Part Number 1: SI4761-A20-AM-ND; Supplier 2: Mouser; Supplier Part Number 2: N/A; Packing: Tray; Mounting Technology: Surface Mount; Code_JEDEC: MO-220; Code_IPC: J-STD-020; ComponentLink1Description: Manufacturer URL; ComponentLink1URL: http://www.silabs.com/; ComponentLink2Description: Datasheet; ComponentLink2URL: http://www.silabs.com/Support Documents/TechnicalDocs/Si476x-short.pdf; ComponentLink3Description: Package Specification; ComponentLink3URL: http://www.silabs.com/Support%20Documents/TechnicalDocs/Si3452.pdf
footprint SLAB-QFN-40-4100x4100TP_A_N (QFN, 40-Leads, Body 6x6mm, Pitch 0.5mm, Thermal Pad 4.1X4.1mm, IPC Medium Density)
footprint SLAB-QFN-40-4100x4100TP_A_L (QFN, 40-Leads, Body 6x6mm, Pitch 0.5mm, Thermal Pad 4.1X4.1mm, IPC High Density)
footprint SLAB-QFN-40-4100x4100TP_A_M (QFN, 40-Leads, Body 6x6mm, Pitch 0.5mm, Thermal Pad 4.1X4.1mm, IPC Low Density)
pins: 1 NC, 2 FMXIP (in), 3 FMXIN (in), 4 RFGND (power), 5 RFREG (power), 6 FMO (out), 7 FMI (in), 8 WXI/NC, 9 AMI (in), 10 NC, 11 A0 (in), 12 INTB (out), 13 DCLK2 (in), 14 DOUT2 (out), 15 RSTB (in), 16 SDA (io), 17 SCL (in), 18 DFS2 (in), 19 VIO1 (power), 20 VD (power), 21 DBYP, 22 VIO2 (power), 23 IQCLK (out), 24 IQFS (out), 25 IOUT (out), 26 QOUT (out), 27 DIN (in), 28 DFS (in), 29 DCLK (in), 30 BLEND/NC (in), 31 VA (power), 32 LOUT/MPXOUT (out), 33 ROUT (out), 34 RCLK/XTAL2 (in), 35 XTAL1, 36 DACREF, 37 ICIP (in), 38 ICIN (in), 39 FMAGC2 (in), 40 FMAGC1 (in), 41 GND (power)

## Si4761-A20-AMR
designator U?
High-Performance Automotive AM / FM Radio Receiver and HD Radio Tuner, -40 to 85 degC, 40-pin QFN, Tape and Reel; Manufacturer: Silicon Labs; PartNumber: Si4761-A20-AMR; RDS Support: TRUE; Sub-Family: Automotive Tuners; PackageVersion: Rev. 1.3, 01/2012; PackageReference: QFN-40; PackageDescription: 40-Pin Quad-Flat No-Leads Package, Body 6 x 6 mm, Pitch 0.5 mm; Supplier 1: Digi-Key; Supplier Part Number 1: SI4761-A20-AMR-ND; Packing: Tape and Reel; Mounting Technology: Surface Mount; Code_JEDEC: MO-220; Code_IPC: J-STD-020; ComponentLink1Description: Manufacturer URL; ComponentLink1URL: http://www.silabs.com/; ComponentLink2Description: Datasheet; ComponentLink2URL: http://www.silabs.com/Support Documents/TechnicalDocs/Si476x-short.pdf; ComponentLink3Description: Package Specification; ComponentLink3URL: http://www.silabs.com/Support%20Documents/TechnicalDocs/Si3452.pdf
footprint SLAB-QFN-40-4100x4100TP_A_N (QFN, 40-Leads, Body 6x6mm, Pitch 0.5mm, Thermal Pad 4.1X4.1mm, IPC Medium Density)
footprint SLAB-QFN-40-4100x4100TP_A_L (QFN, 40-Leads, Body 6x6mm, Pitch 0.5mm, Thermal Pad 4.1X4.1mm, IPC High Density)
footprint SLAB-QFN-40-4100x4100TP_A_M (QFN, 40-Leads, Body 6x6mm, Pitch 0.5mm, Thermal Pad 4.1X4.1mm, IPC Low Density)
pins: 1 NC, 2 FMXIP (in), 3 FMXIN (in), 4 RFGND (power), 5 RFREG (power), 6 FMO (out), 7 FMI (in), 8 WXI/NC, 9 AMI (in), 10 NC, 11 A0 (in), 12 INTB (out), 13 DCLK2 (in), 14 DOUT2 (out), 15 RSTB (in), 16 SDA (io), 17 SCL (in), 18 DFS2 (in), 19 VIO1 (power), 20 VD (power), 21 DBYP, 22 VIO2 (power), 23 IQCLK (out), 24 IQFS (out), 25 IOUT (out), 26 QOUT (out), 27 DIN (in), 28 DFS (in), 29 DCLK (in), 30 BLEND/NC (in), 31 VA (power), 32 LOUT/MPXOUT (out), 33 ROUT (out), 34 RCLK/XTAL2 (in), 35 XTAL1, 36 DACREF, 37 ICIP (in), 38 ICIN (in), 39 FMAGC2 (in), 40 FMAGC1 (in), 41 GND (power)

## Si4761-A20-GM
designator U?
High-Performance Automotive AM / FM Radio Receiver and HD Radio Tuner, -40 to 85 degC, 40-pin QFN, Tray; Manufacturer: Silicon Labs; PartNumber: Si4761-A20-GM; RDS Support: TRUE; Sub-Family: Automotive Tuners; PackageVersion: Rev. 1.3, 01/2012; PackageReference: QFN-40; PackageDescription: 40-Pin Quad-Flat No-Leads Package, Body 6 x 6 mm, Pitch 0.5 mm; Supplier 1: Digi-Key; Supplier Part Number 1: SI4761-A20-GM-ND; Supplier 2: Mouser; Supplier Part Number 2: N/A; Packing: Tray; Mounting Technology: Surface Mount; Code_JEDEC: MO-220; Code_IPC: J-STD-020; ComponentLink1Description: Manufacturer URL; ComponentLink1URL: http://www.silabs.com/; ComponentLink2Description: Datasheet; ComponentLink2URL: http://www.silabs.com/Support Documents/TechnicalDocs/Si476x-short.pdf; ComponentLink3Description: Package Specification; ComponentLink3URL: http://www.silabs.com/Support%20Documents/TechnicalDocs/Si3452.pdf
footprint SLAB-QFN-40-4100x4100TP_A_N (QFN, 40-Leads, Body 6x6mm, Pitch 0.5mm, Thermal Pad 4.1X4.1mm, IPC Medium Density)
footprint SLAB-QFN-40-4100x4100TP_A_L (QFN, 40-Leads, Body 6x6mm, Pitch 0.5mm, Thermal Pad 4.1X4.1mm, IPC High Density)
footprint SLAB-QFN-40-4100x4100TP_A_M (QFN, 40-Leads, Body 6x6mm, Pitch 0.5mm, Thermal Pad 4.1X4.1mm, IPC Low Density)
pins: 1 NC, 2 FMXIP (in), 3 FMXIN (in), 4 RFGND (power), 5 RFREG (power), 6 FMO (out), 7 FMI (in), 8 WXI/NC, 9 AMI (in), 10 NC, 11 A0 (in), 12 INTB (out), 13 DCLK2 (in), 14 DOUT2 (out), 15 RSTB (in), 16 SDA (io), 17 SCL (in), 18 DFS2 (in), 19 VIO1 (power), 20 VD (power), 21 DBYP, 22 VIO2 (power), 23 IQCLK (out), 24 IQFS (out), 25 IOUT (out), 26 QOUT (out), 27 DIN (in), 28 DFS (in), 29 DCLK (in), 30 BLEND/NC (in), 31 VA (power), 32 LOUT/MPXOUT (out), 33 ROUT (out), 34 RCLK/XTAL2 (in), 35 XTAL1, 36 DACREF, 37 ICIP (in), 38 ICIN (in), 39 FMAGC2 (in), 40 FMAGC1 (in), 41 GND (power)

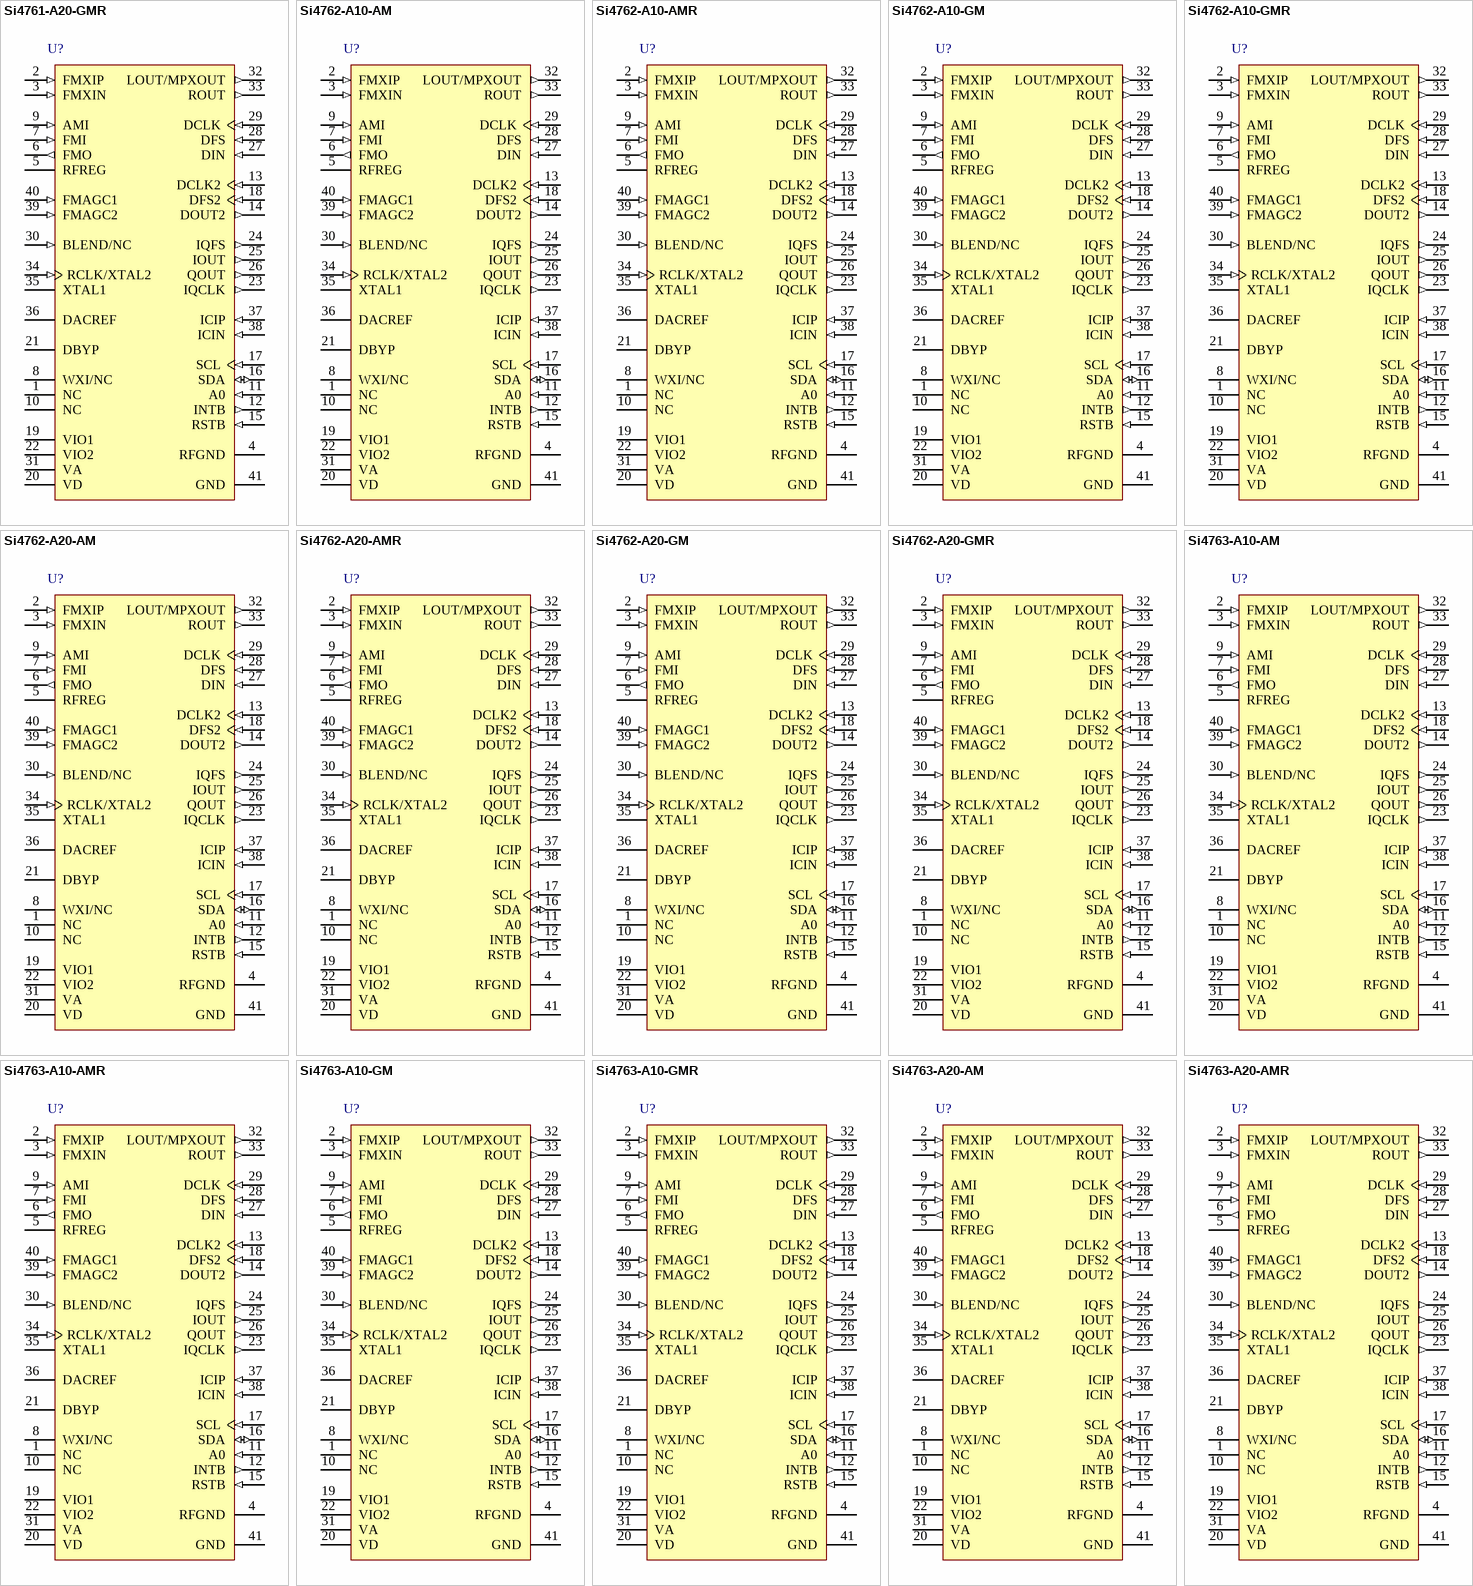
[diagram p3: symbols Si4761-A20-GMR to Si4763-A20-AMR]

## Si4761-A20-GMR
designator U?
High-Performance Automotive AM / FM Radio Receiver and HD Radio Tuner, -40 to 85 degC, 40-pin QFN, Tape and Reel; Manufacturer: Silicon Labs; PartNumber: Si4761-A20-GMR; RDS Support: TRUE; Sub-Family: Automotive Tuners; PackageVersion: Rev. 1.3, 01/2012; PackageReference: QFN-40; PackageDescription: 40-Pin Quad-Flat No-Leads Package, Body 6 x 6 mm, Pitch 0.5 mm; Supplier 1: Digi-Key; Supplier Part Number 1: SI4761-A20-GMR-ND; Packing: Tape and Reel; Mounting Technology: Surface Mount; Code_JEDEC: MO-220; Code_IPC: J-STD-020; ComponentLink1Description: Manufacturer URL; ComponentLink1URL: http://www.silabs.com/; ComponentLink2Description: Datasheet; ComponentLink2URL: http://www.silabs.com/Support Documents/TechnicalDocs/Si476x-short.pdf; ComponentLink3Description: Package Specification; ComponentLink3URL: http://www.silabs.com/Support%20Documents/TechnicalDocs/Si3452.pdf
footprint SLAB-QFN-40-4100x4100TP_A_N (QFN, 40-Leads, Body 6x6mm, Pitch 0.5mm, Thermal Pad 4.1X4.1mm, IPC Medium Density)
footprint SLAB-QFN-40-4100x4100TP_A_L (QFN, 40-Leads, Body 6x6mm, Pitch 0.5mm, Thermal Pad 4.1X4.1mm, IPC High Density)
footprint SLAB-QFN-40-4100x4100TP_A_M (QFN, 40-Leads, Body 6x6mm, Pitch 0.5mm, Thermal Pad 4.1X4.1mm, IPC Low Density)
pins: 1 NC, 2 FMXIP (in), 3 FMXIN (in), 4 RFGND (power), 5 RFREG (power), 6 FMO (out), 7 FMI (in), 8 WXI/NC, 9 AMI (in), 10 NC, 11 A0 (in), 12 INTB (out), 13 DCLK2 (in), 14 DOUT2 (out), 15 RSTB (in), 16 SDA (io), 17 SCL (in), 18 DFS2 (in), 19 VIO1 (power), 20 VD (power), 21 DBYP, 22 VIO2 (power), 23 IQCLK (out), 24 IQFS (out), 25 IOUT (out), 26 QOUT (out), 27 DIN (in), 28 DFS (in), 29 DCLK (in), 30 BLEND/NC (in), 31 VA (power), 32 LOUT/MPXOUT (out), 33 ROUT (out), 34 RCLK/XTAL2 (in), 35 XTAL1, 36 DACREF, 37 ICIP (in), 38 ICIN (in), 39 FMAGC2 (in), 40 FMAGC1 (in), 41 GND (power)

## Si4762-A10-AM
designator U?
High-Performance Automotive AM / FM Radio Receiver and HD Radio Tuner, -40 to 85 degC, 40-pin QFN, Tray; Manufacturer: Silicon Labs; PartNumber: Si4762-A10-AM; RDS Support: TRUE; Sub-Family: Automotive Tuners; PackageVersion: Rev. 1.3, 01/2012; PackageReference: QFN-40; PackageDescription: 40-Pin Quad-Flat No-Leads Package, Body 6 x 6 mm, Pitch 0.5 mm; Supplier 1: Digi-Key; Supplier Part Number 1: SI4762-A10-AM-ND; Supplier 2: Mouser; Supplier Part Number 2: N/A; Packing: Tray; Mounting Technology: Surface Mount; Code_JEDEC: MO-220; Code_IPC: J-STD-020; ComponentLink1Description: Manufacturer URL; ComponentLink1URL: http://www.silabs.com/; ComponentLink2Description: Datasheet; ComponentLink2URL: http://www.silabs.com/Support Documents/TechnicalDocs/Si476x-short.pdf; ComponentLink3Description: Package Specification; ComponentLink3URL: http://www.silabs.com/Support%20Documents/TechnicalDocs/Si3452.pdf
footprint SLAB-QFN-40-4100x4100TP_A_N (QFN, 40-Leads, Body 6x6mm, Pitch 0.5mm, Thermal Pad 4.1X4.1mm, IPC Medium Density)
footprint SLAB-QFN-40-4100x4100TP_A_L (QFN, 40-Leads, Body 6x6mm, Pitch 0.5mm, Thermal Pad 4.1X4.1mm, IPC High Density)
footprint SLAB-QFN-40-4100x4100TP_A_M (QFN, 40-Leads, Body 6x6mm, Pitch 0.5mm, Thermal Pad 4.1X4.1mm, IPC Low Density)
pins: 1 NC, 2 FMXIP (in), 3 FMXIN (in), 4 RFGND (power), 5 RFREG (power), 6 FMO (out), 7 FMI (in), 8 WXI/NC, 9 AMI (in), 10 NC, 11 A0 (in), 12 INTB (out), 13 DCLK2 (in), 14 DOUT2 (out), 15 RSTB (in), 16 SDA (io), 17 SCL (in), 18 DFS2 (in), 19 VIO1 (power), 20 VD (power), 21 DBYP, 22 VIO2 (power), 23 IQCLK (out), 24 IQFS (out), 25 IOUT (out), 26 QOUT (out), 27 DIN (in), 28 DFS (in), 29 DCLK (in), 30 BLEND/NC (in), 31 VA (power), 32 LOUT/MPXOUT (out), 33 ROUT (out), 34 RCLK/XTAL2 (in), 35 XTAL1, 36 DACREF, 37 ICIP (in), 38 ICIN (in), 39 FMAGC2 (in), 40 FMAGC1 (in), 41 GND (power)

## Si4762-A10-AMR
designator U?
High-Performance Automotive AM / FM Radio Receiver and HD Radio Tuner, -40 to 85 degC, 40-pin QFN, Tape and Reel; Manufacturer: Silicon Labs; PartNumber: Si4762-A10-AMR; RDS Support: TRUE; Sub-Family: Automotive Tuners; PackageVersion: Rev. 1.3, 01/2012; PackageReference: QFN-40; PackageDescription: 40-Pin Quad-Flat No-Leads Package, Body 6 x 6 mm, Pitch 0.5 mm; Supplier 1: Digi-Key; Supplier Part Number 1: SI4762-A10-AMR-ND; Supplier 2: Mouser; Supplier Part Number 2: N/A; Packing: Tape and Reel; Mounting Technology: Surface Mount; Code_JEDEC: MO-220; Code_IPC: J-STD-020; ComponentLink1Description: Manufacturer URL; ComponentLink1URL: http://www.silabs.com/; ComponentLink2Description: Datasheet; ComponentLink2URL: http://www.silabs.com/Support Documents/TechnicalDocs/Si476x-short.pdf; ComponentLink3Description: Package Specification; ComponentLink3URL: http://www.silabs.com/Support%20Documents/TechnicalDocs/Si3452.pdf
footprint SLAB-QFN-40-4100x4100TP_A_N (QFN, 40-Leads, Body 6x6mm, Pitch 0.5mm, Thermal Pad 4.1X4.1mm, IPC Medium Density)
footprint SLAB-QFN-40-4100x4100TP_A_L (QFN, 40-Leads, Body 6x6mm, Pitch 0.5mm, Thermal Pad 4.1X4.1mm, IPC High Density)
footprint SLAB-QFN-40-4100x4100TP_A_M (QFN, 40-Leads, Body 6x6mm, Pitch 0.5mm, Thermal Pad 4.1X4.1mm, IPC Low Density)
pins: 1 NC, 2 FMXIP (in), 3 FMXIN (in), 4 RFGND (power), 5 RFREG (power), 6 FMO (out), 7 FMI (in), 8 WXI/NC, 9 AMI (in), 10 NC, 11 A0 (in), 12 INTB (out), 13 DCLK2 (in), 14 DOUT2 (out), 15 RSTB (in), 16 SDA (io), 17 SCL (in), 18 DFS2 (in), 19 VIO1 (power), 20 VD (power), 21 DBYP, 22 VIO2 (power), 23 IQCLK (out), 24 IQFS (out), 25 IOUT (out), 26 QOUT (out), 27 DIN (in), 28 DFS (in), 29 DCLK (in), 30 BLEND/NC (in), 31 VA (power), 32 LOUT/MPXOUT (out), 33 ROUT (out), 34 RCLK/XTAL2 (in), 35 XTAL1, 36 DACREF, 37 ICIP (in), 38 ICIN (in), 39 FMAGC2 (in), 40 FMAGC1 (in), 41 GND (power)

## Si4762-A10-GM
designator U?
High-Performance Automotive AM / FM Radio Receiver and HD Radio Tuner, -40 to 85 degC, 40-pin QFN, Tray; Manufacturer: Silicon Labs; PartNumber: Si4762-A10-GM; RDS Support: TRUE; Sub-Family: Automotive Tuners; PackageVersion: Rev. 1.3, 01/2012; PackageReference: QFN-40; PackageDescription: 40-Pin Quad-Flat No-Leads Package, Body 6 x 6 mm, Pitch 0.5 mm; Supplier 1: Digi-Key; Supplier Part Number 1: SI4762-A10-GM-ND; Supplier 2: Mouser; Supplier Part Number 2: N/A; Packing: Tray; Mounting Technology: Surface Mount; Code_JEDEC: MO-220; Code_IPC: J-STD-020; ComponentLink1Description: Manufacturer URL; ComponentLink1URL: http://www.silabs.com/; ComponentLink2Description: Datasheet; ComponentLink2URL: http://www.silabs.com/Support Documents/TechnicalDocs/Si476x-short.pdf; ComponentLink3Description: Package Specification; ComponentLink3URL: http://www.silabs.com/Support%20Documents/TechnicalDocs/Si3452.pdf
footprint SLAB-QFN-40-4100x4100TP_A_N (QFN, 40-Leads, Body 6x6mm, Pitch 0.5mm, Thermal Pad 4.1X4.1mm, IPC Medium Density)
footprint SLAB-QFN-40-4100x4100TP_A_L (QFN, 40-Leads, Body 6x6mm, Pitch 0.5mm, Thermal Pad 4.1X4.1mm, IPC High Density)
footprint SLAB-QFN-40-4100x4100TP_A_M (QFN, 40-Leads, Body 6x6mm, Pitch 0.5mm, Thermal Pad 4.1X4.1mm, IPC Low Density)
pins: 1 NC, 2 FMXIP (in), 3 FMXIN (in), 4 RFGND (power), 5 RFREG (power), 6 FMO (out), 7 FMI (in), 8 WXI/NC, 9 AMI (in), 10 NC, 11 A0 (in), 12 INTB (out), 13 DCLK2 (in), 14 DOUT2 (out), 15 RSTB (in), 16 SDA (io), 17 SCL (in), 18 DFS2 (in), 19 VIO1 (power), 20 VD (power), 21 DBYP, 22 VIO2 (power), 23 IQCLK (out), 24 IQFS (out), 25 IOUT (out), 26 QOUT (out), 27 DIN (in), 28 DFS (in), 29 DCLK (in), 30 BLEND/NC (in), 31 VA (power), 32 LOUT/MPXOUT (out), 33 ROUT (out), 34 RCLK/XTAL2 (in), 35 XTAL1, 36 DACREF, 37 ICIP (in), 38 ICIN (in), 39 FMAGC2 (in), 40 FMAGC1 (in), 41 GND (power)

## Si4762-A10-GMR
designator U?
High-Performance Automotive AM / FM Radio Receiver and HD Radio Tuner, -40 to 85 degC, 40-pin QFN, Tape and Reel; Manufacturer: Silicon Labs; PartNumber: Si4762-A10-GMR; RDS Support: TRUE; Sub-Family: Automotive Tuners; PackageVersion: Rev. 1.3, 01/2012; PackageReference: QFN-40; PackageDescription: 40-Pin Quad-Flat No-Leads Package, Body 6 x 6 mm, Pitch 0.5 mm; Supplier 1: Digi-Key; Supplier Part Number 1: SI4762-A10-GMR-ND; Supplier 2: Mouser; Supplier Part Number 2: N/A; Packing: Tape and Reel; Mounting Technology: Surface Mount; Code_JEDEC: MO-220; Code_IPC: J-STD-020; ComponentLink1Description: Manufacturer URL; ComponentLink1URL: http://www.silabs.com/; ComponentLink2Description: Datasheet; ComponentLink2URL: http://www.silabs.com/Support Documents/TechnicalDocs/Si476x-short.pdf; ComponentLink3Description: Package Specification; ComponentLink3URL: http://www.silabs.com/Support%20Documents/TechnicalDocs/Si3452.pdf
footprint SLAB-QFN-40-4100x4100TP_A_N (QFN, 40-Leads, Body 6x6mm, Pitch 0.5mm, Thermal Pad 4.1X4.1mm, IPC Medium Density)
footprint SLAB-QFN-40-4100x4100TP_A_L (QFN, 40-Leads, Body 6x6mm, Pitch 0.5mm, Thermal Pad 4.1X4.1mm, IPC High Density)
footprint SLAB-QFN-40-4100x4100TP_A_M (QFN, 40-Leads, Body 6x6mm, Pitch 0.5mm, Thermal Pad 4.1X4.1mm, IPC Low Density)
pins: 1 NC, 2 FMXIP (in), 3 FMXIN (in), 4 RFGND (power), 5 RFREG (power), 6 FMO (out), 7 FMI (in), 8 WXI/NC, 9 AMI (in), 10 NC, 11 A0 (in), 12 INTB (out), 13 DCLK2 (in), 14 DOUT2 (out), 15 RSTB (in), 16 SDA (io), 17 SCL (in), 18 DFS2 (in), 19 VIO1 (power), 20 VD (power), 21 DBYP, 22 VIO2 (power), 23 IQCLK (out), 24 IQFS (out), 25 IOUT (out), 26 QOUT (out), 27 DIN (in), 28 DFS (in), 29 DCLK (in), 30 BLEND/NC (in), 31 VA (power), 32 LOUT/MPXOUT (out), 33 ROUT (out), 34 RCLK/XTAL2 (in), 35 XTAL1, 36 DACREF, 37 ICIP (in), 38 ICIN (in), 39 FMAGC2 (in), 40 FMAGC1 (in), 41 GND (power)

## Si4762-A20-AM
designator U?
High-Performance Automotive AM / FM Radio Receiver and HD Radio Tuner, -40 to 85 degC, 40-pin QFN, Tray; Manufacturer: Silicon Labs; PartNumber: Si4762-A20-AM; RDS Support: TRUE; Sub-Family: Automotive Tuners; PackageVersion: Rev. 1.3, 01/2012; PackageReference: QFN-40; PackageDescription: 40-Pin Quad-Flat No-Leads Package, Body 6 x 6 mm, Pitch 0.5 mm; Supplier 1: Digi-Key; Supplier Part Number 1: SI4762-A20-AM-ND; Supplier 2: Mouser; Supplier Part Number 2: N/A; Packing: Tray; Mounting Technology: Surface Mount; Code_JEDEC: MO-220; Code_IPC: J-STD-020; ComponentLink1Description: Manufacturer URL; ComponentLink1URL: http://www.silabs.com/; ComponentLink2Description: Datasheet; ComponentLink2URL: http://www.silabs.com/Support Documents/TechnicalDocs/Si476x-short.pdf; ComponentLink3Description: Package Specification; ComponentLink3URL: http://www.silabs.com/Support%20Documents/TechnicalDocs/Si3452.pdf
footprint SLAB-QFN-40-4100x4100TP_A_N (QFN, 40-Leads, Body 6x6mm, Pitch 0.5mm, Thermal Pad 4.1X4.1mm, IPC Medium Density)
footprint SLAB-QFN-40-4100x4100TP_A_L (QFN, 40-Leads, Body 6x6mm, Pitch 0.5mm, Thermal Pad 4.1X4.1mm, IPC High Density)
footprint SLAB-QFN-40-4100x4100TP_A_M (QFN, 40-Leads, Body 6x6mm, Pitch 0.5mm, Thermal Pad 4.1X4.1mm, IPC Low Density)
pins: 1 NC, 2 FMXIP (in), 3 FMXIN (in), 4 RFGND (power), 5 RFREG (power), 6 FMO (out), 7 FMI (in), 8 WXI/NC, 9 AMI (in), 10 NC, 11 A0 (in), 12 INTB (out), 13 DCLK2 (in), 14 DOUT2 (out), 15 RSTB (in), 16 SDA (io), 17 SCL (in), 18 DFS2 (in), 19 VIO1 (power), 20 VD (power), 21 DBYP, 22 VIO2 (power), 23 IQCLK (out), 24 IQFS (out), 25 IOUT (out), 26 QOUT (out), 27 DIN (in), 28 DFS (in), 29 DCLK (in), 30 BLEND/NC (in), 31 VA (power), 32 LOUT/MPXOUT (out), 33 ROUT (out), 34 RCLK/XTAL2 (in), 35 XTAL1, 36 DACREF, 37 ICIP (in), 38 ICIN (in), 39 FMAGC2 (in), 40 FMAGC1 (in), 41 GND (power)

## Si4762-A20-AMR
designator U?
High-Performance Automotive AM / FM Radio Receiver and HD Radio Tuner, -40 to 85 degC, 40-pin QFN, Tape and Reel; Manufacturer: Silicon Labs; PartNumber: Si4762-A20-AMR; RDS Support: TRUE; Sub-Family: Automotive Tuners; PackageVersion: Rev. 1.3, 01/2012; PackageReference: QFN-40; PackageDescription: 40-Pin Quad-Flat No-Leads Package, Body 6 x 6 mm, Pitch 0.5 mm; Supplier 1: Digi-Key; Supplier Part Number 1: SI4762-A20-AMR-ND; Packing: Tape and Reel; Mounting Technology: Surface Mount; Code_JEDEC: MO-220; Code_IPC: J-STD-020; ComponentLink1Description: Manufacturer URL; ComponentLink1URL: http://www.silabs.com/; ComponentLink2Description: Datasheet; ComponentLink2URL: http://www.silabs.com/Support Documents/TechnicalDocs/Si476x-short.pdf; ComponentLink3Description: Package Specification; ComponentLink3URL: http://www.silabs.com/Support%20Documents/TechnicalDocs/Si3452.pdf
footprint SLAB-QFN-40-4100x4100TP_A_N (QFN, 40-Leads, Body 6x6mm, Pitch 0.5mm, Thermal Pad 4.1X4.1mm, IPC Medium Density)
footprint SLAB-QFN-40-4100x4100TP_A_L (QFN, 40-Leads, Body 6x6mm, Pitch 0.5mm, Thermal Pad 4.1X4.1mm, IPC High Density)
footprint SLAB-QFN-40-4100x4100TP_A_M (QFN, 40-Leads, Body 6x6mm, Pitch 0.5mm, Thermal Pad 4.1X4.1mm, IPC Low Density)
pins: 1 NC, 2 FMXIP (in), 3 FMXIN (in), 4 RFGND (power), 5 RFREG (power), 6 FMO (out), 7 FMI (in), 8 WXI/NC, 9 AMI (in), 10 NC, 11 A0 (in), 12 INTB (out), 13 DCLK2 (in), 14 DOUT2 (out), 15 RSTB (in), 16 SDA (io), 17 SCL (in), 18 DFS2 (in), 19 VIO1 (power), 20 VD (power), 21 DBYP, 22 VIO2 (power), 23 IQCLK (out), 24 IQFS (out), 25 IOUT (out), 26 QOUT (out), 27 DIN (in), 28 DFS (in), 29 DCLK (in), 30 BLEND/NC (in), 31 VA (power), 32 LOUT/MPXOUT (out), 33 ROUT (out), 34 RCLK/XTAL2 (in), 35 XTAL1, 36 DACREF, 37 ICIP (in), 38 ICIN (in), 39 FMAGC2 (in), 40 FMAGC1 (in), 41 GND (power)

## Si4762-A20-GM
designator U?
High-Performance Automotive AM / FM Radio Receiver and HD Radio Tuner, -40 to 85 degC, 40-pin QFN, Tray; Manufacturer: Silicon Labs; PartNumber: Si4762-A20-GM; RDS Support: TRUE; Sub-Family: Automotive Tuners; PackageVersion: Rev. 1.3, 01/2012; PackageReference: QFN-40; PackageDescription: 40-Pin Quad-Flat No-Leads Package, Body 6 x 6 mm, Pitch 0.5 mm; Supplier 1: Digi-Key; Supplier Part Number 1: SI4762-A20-GM-ND; Supplier 2: Mouser; Supplier Part Number 2: N/A; Packing: Tray; Mounting Technology: Surface Mount; Code_JEDEC: MO-220; Code_IPC: J-STD-020; ComponentLink1Description: Manufacturer URL; ComponentLink1URL: http://www.silabs.com/; ComponentLink2Description: Datasheet; ComponentLink2URL: http://www.silabs.com/Support Documents/TechnicalDocs/Si476x-short.pdf; ComponentLink3Description: Package Specification; ComponentLink3URL: http://www.silabs.com/Support%20Documents/TechnicalDocs/Si3452.pdf
footprint SLAB-QFN-40-4100x4100TP_A_N (QFN, 40-Leads, Body 6x6mm, Pitch 0.5mm, Thermal Pad 4.1X4.1mm, IPC Medium Density)
footprint SLAB-QFN-40-4100x4100TP_A_L (QFN, 40-Leads, Body 6x6mm, Pitch 0.5mm, Thermal Pad 4.1X4.1mm, IPC High Density)
footprint SLAB-QFN-40-4100x4100TP_A_M (QFN, 40-Leads, Body 6x6mm, Pitch 0.5mm, Thermal Pad 4.1X4.1mm, IPC Low Density)
pins: 1 NC, 2 FMXIP (in), 3 FMXIN (in), 4 RFGND (power), 5 RFREG (power), 6 FMO (out), 7 FMI (in), 8 WXI/NC, 9 AMI (in), 10 NC, 11 A0 (in), 12 INTB (out), 13 DCLK2 (in), 14 DOUT2 (out), 15 RSTB (in), 16 SDA (io), 17 SCL (in), 18 DFS2 (in), 19 VIO1 (power), 20 VD (power), 21 DBYP, 22 VIO2 (power), 23 IQCLK (out), 24 IQFS (out), 25 IOUT (out), 26 QOUT (out), 27 DIN (in), 28 DFS (in), 29 DCLK (in), 30 BLEND/NC (in), 31 VA (power), 32 LOUT/MPXOUT (out), 33 ROUT (out), 34 RCLK/XTAL2 (in), 35 XTAL1, 36 DACREF, 37 ICIP (in), 38 ICIN (in), 39 FMAGC2 (in), 40 FMAGC1 (in), 41 GND (power)